# Altium integrated library CtrBoard-H7_V1.0.IntLib: 96 symbols
Pins are listed as number, name and electrical type; pins without a type are passive.

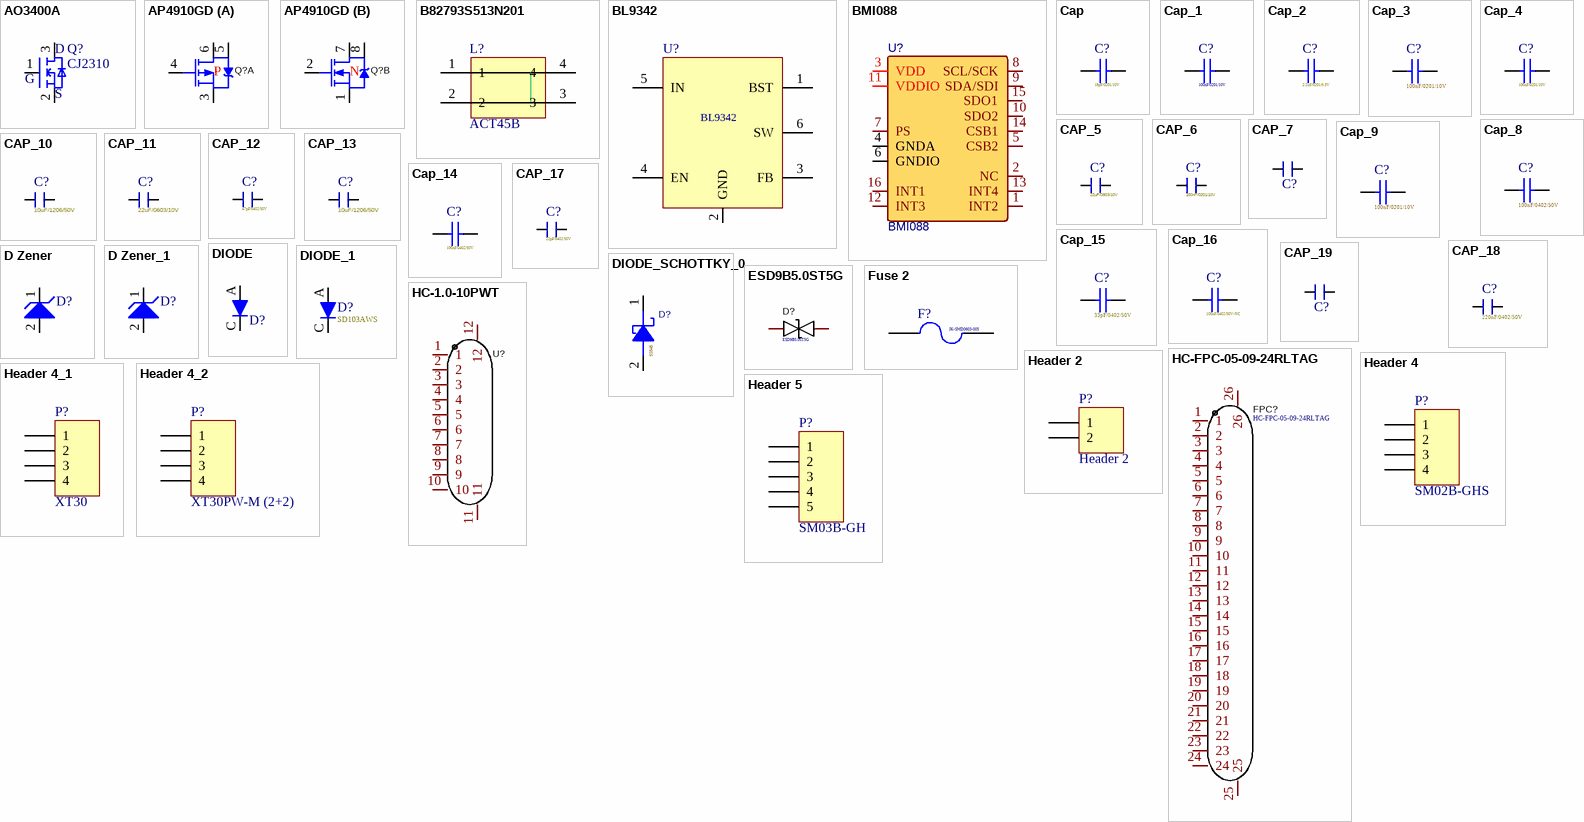
[diagram p0: symbols AO3400A to Header 5]

## AO3400A
designator Q?, comment CJ2310
footprint SOT-23
pins: 1 G, 2 S, 3 D

## AP4910GD
designator Q?  (value not drawn)
Manufacturer: ALLPOWER(铨力); Add into BOM: yes; Type: 1个N沟道和1个P沟道; Name: AP4910GD; Symbol: AP4910GD; Device: AP4910GD; LCSC Part Name: 1个N沟道和1个P沟道; Supplier Part: C2849573; Manufacturer Part: AP4910GD; Supplier Footprint: PDFN(5x6); JLCPCB Part Class: Extended Part; Datasheet: https://atta.szlcsc.com/upload/public/pdf/source/20210723/C2849573_4C092881E49D8B65965118F4F21242AC.pdf; Supplier: LCSC; Convert to PCB: yes; Continuous Drain Current (Id): -; Power Dissipation (Pd): -; Drain Source On Resistance (RDS(on)@Vgs,Id): -; Gate Threshold Voltage (Vgs(th)@Id): -; Total Gate Charge (Qg@Vgs): -; Input Capacitance (Ciss@Vds): -; Reverse Transfer Capacitance (Crss@Vds): -
footprint DFN-8_L5.8-W4.9-P1.27-LS6.0-BL
3D model DFN-8_L5.8-W4.9-P1.27-LS6.0-BL
part A pins: 3 S, 4 G2, 5 D, 6 D
part B pins: 1 S, 2 G, 7 D, 8 D
part A text: P
part B text: N

## B82793S513N201
designator L?, comment ACT45B
footprint ACT45B
pins: 1, 2, 3, 4

## BL9342
designator U?, comment LGS5145  (value not drawn)
footprint SOT23-6
pins: 1 BST, 2 GND, 3 FB, 4 EN, 5 IN, 6 SW

## BMI088
designator U?
BOM_Manufacturer: Bosch Sensortec; Contributor: LCSC; SMT Type: Extend; BOM_Supplier: LCSC; BOM_Supplier Part: C194919; BOM_Manufacturer Part: BMI088; BOM_JLCPCB SMD: Yes; spicePre: U; spiceSymbolName: BMI088
footprint LGA-16-L4.5-W3.0-P0.50_TL (Footprint not found)
pins: 1 INT2, 2 NC, 3 VDD, 4 GNDA, 5 CSB2, 6 GNDIO, 7 PS, 8 SCL/SCK, 9 SDA/SDI, 10 SDO2, 11 VDDIO, 12 INT3, 13 INT4, 14 CSB1, 15 SDO1, 16 INT1

## Cap
designator C?, comment 18pF/0201/10V
Value: 18pF/0603/50V; Published: 8-Jun-2000; LatestRevisionDate: 17-Jul-2002; LatestRevisionNote: Re-released for DXP Platform.; PackageReference: RAD-0.3; Publisher: Altium Limited; PackageDescription: Radial Cap, Thru-Hole; 2 Leads; 0.3 in Pin Spacing
footprint 0402
footprint C0201
pins: 1, 2

## Cap_1
designator C?, comment 100nF/0201/10V
Published: 8-Jun-2000; LatestRevisionDate: 17-Jul-2002; LatestRevisionNote: Re-released for DXP Platform.; PackageReference: RAD-0.3; Publisher: Altium Limited; PackageDescription: Radial Cap, Thru-Hole; 2 Leads; 0.3 in Pin Spacing
simulation model CAP (Capacitor)
signal-integrity model Cap
footprint C0201
pins: 1, 2

## Cap_2
designator C?, comment 2.2uF/0201/6.3V
18pF/0402/50V; Value: 18pF/0603/50V; Published: 8-Jun-2000; LatestRevisionDate: 17-Jul-2002; LatestRevisionNote: Re-released for DXP Platform.; PackageReference: RAD-0.3; Publisher: Altium Limited; PackageDescription: Radial Cap, Thru-Hole; 2 Leads; 0.3 in Pin Spacing
footprint 0402
footprint C0201
pins: 1, 2

## Cap_3
designator C?, comment 100nF/0201/10V
Value: 100nF/0603/50V; Published: 8-Jun-2000; LatestRevisionDate: 17-Jul-2002; LatestRevisionNote: Re-released for DXP Platform.; PackageReference: RAD-0.3; Publisher: Altium Limited; PackageDescription: Radial Cap, Thru-Hole; 2 Leads; 0.3 in Pin Spacing
simulation model CAP (Capacitor)
signal-integrity model Cap
footprint C0201
pins: 1, 2

## Cap_4
designator C?, comment 100nF/0201/10V
Value: 100nF/0402/50V; Published: 8-Jun-2000; LatestRevisionDate: 17-Jul-2002; LatestRevisionNote: Re-released for DXP Platform.; PackageReference: RAD-0.3; Publisher: Altium Limited; PackageDescription: Radial Cap, Thru-Hole; 2 Leads; 0.3 in Pin Spacing
footprint C0201
pins: 1, 2

## CAP_5
designator C?, comment 22uF/0603/10V
CAP,1uF/25V/0805
footprint C0603
pins: 1, 2

## CAP_6
designator C?, comment 100nF/0201/10V
footprint C0201
pins: 1, 2

## CAP_7
designator C?, comment 100nF/0402/50V  (value not drawn)
footprint C0402
pins: 1, 2

## Cap_8
designator C?, comment 100nF/0402/50V
Value: 1uF/0603/50V; Published: 8-Jun-2000; LatestRevisionDate: 17-Jul-2002; LatestRevisionNote: Re-released for DXP Platform.; PackageReference: RAD-0.3; Publisher: Altium Limited; PackageDescription: Radial Cap, Thru-Hole; 2 Leads; 0.3 in Pin Spacing
simulation model CAP (Capacitor)
signal-integrity model Cap
footprint C0402
pins: 1, 2

## Cap_9
designator C?, comment 100nF/0201/10V
Value: 1uF/0603/50V; Published: 8-Jun-2000; LatestRevisionDate: 17-Jul-2002; LatestRevisionNote: Re-released for DXP Platform.; PackageReference: RAD-0.3; Publisher: Altium Limited; PackageDescription: Radial Cap, Thru-Hole; 2 Leads; 0.3 in Pin Spacing
simulation model CAP (Capacitor)
signal-integrity model Cap
footprint C0201
pins: 1, 2

## CAP_10
designator C?, comment 10uF/1206/50V
CAP,1uF/25V/0805
footprint C1206 (C0805)
pins: 1, 2

## CAP_11
designator C?, comment 22uF/0603/10V
footprint C0805
footprint C0603
pins: 1, 2

## CAP_12
designator C?, comment 47pF/0402/50V
footprint C0402
pins: 1, 2

## CAP_13
designator C?, comment 10uF/1206/50V
footprint C1206 (C0805)
pins: 1, 2

## Cap_14
designator C?, comment 100nF/0402/50V
Value: 100nF/0603/50V; Published: 8-Jun-2000; LatestRevisionDate: 17-Jul-2002; LatestRevisionNote: Re-released for DXP Platform.; PackageReference: RAD-0.3; Publisher: Altium Limited; PackageDescription: Radial Cap, Thru-Hole; 2 Leads; 0.3 in Pin Spacing
simulation model CAP (Capacitor)
signal-integrity model Cap
footprint C0402
pins: 1, 2

## Cap_15
designator C?, comment 33pF/0402/50V
Capacitor; Value: 100nF/0603/50V; Published: 8-Jun-2000; LatestRevisionDate: 17-Jul-2002; LatestRevisionNote: Re-released for DXP Platform.; PackageReference: RAD-0.3; Publisher: Altium Limited; PackageDescription: Radial Cap, Thru-Hole; 2 Leads; 0.3 in Pin Spacing
simulation model CAP (Capacitor)
signal-integrity model Cap
footprint R0402
pins: 1, 2

## Cap_16
designator C?, comment 100nF/0402/50V-NC
100nF/0402/50V; Value: 100nF/0603/50V; Published: 8-Jun-2000; LatestRevisionDate: 17-Jul-2002; LatestRevisionNote: Re-released for DXP Platform.; PackageReference: RAD-0.3; Publisher: Altium Limited; PackageDescription: Radial Cap, Thru-Hole; 2 Leads; 0.3 in Pin Spacing
simulation model CAP (Capacitor)
signal-integrity model Cap
footprint C0402
pins: 1, 2

## CAP_17
designator C?, comment 22pF/0402/50V
47pF/0402/50V
footprint C0402
pins: 1, 2

## CAP_18
designator C?, comment 220nF/0402/50V
100nF/0402/50V
footprint C0402
pins: 1, 2

## CAP_19
designator C?, comment 680nF/0402/50V  (value not drawn)
100nF/0402/50V
footprint C0402
pins: 1, 2

## D Zener
designator D?, comment BZX584C30V  (value not drawn)
Zener Diode 28~32V; Published: 8-Jun-2000; LatestRevisionDate: 17-Jul-2002; LatestRevisionNote: Re-released for DXP Platform.; PackageReference: DIODE-0.7; Publisher: Altium Limited; PackageDescription: Diode, Thru-Hole; 2 Leads; 0.7 in Pin Spacing
footprint DIODE-0.7 (Diode, Thru-Hole; 2 Leads; 0.7 in Pin Spacing)
simulation model ZENER (Diode)
signal-integrity model D Zener
footprint SOD-523
pins: 1 C, 2 A

## D Zener_1
designator D?, comment BZX584C9V1  (value not drawn)
Published: 8-Jun-2000; LatestRevisionDate: 17-Jul-2002; LatestRevisionNote: Re-released for DXP Platform.; PackageReference: DIODE-0.7; Publisher: Altium Limited; PackageDescription: Diode, Thru-Hole; 2 Leads; 0.7 in Pin Spacing
footprint DIODE-0.7 (Diode, Thru-Hole; 2 Leads; 0.7 in Pin Spacing)
simulation model ZENER (Diode)
signal-integrity model D Zener
footprint SOD-523
pins: 1 C, 2 A

## DIODE
designator D?, comment ES1JLWS  (value not drawn)
ES1JLWS -SOD123
footprint SOD323 - AC (SOD323)
pins: A, C

## DIODE_1
designator D?, comment SD103AWS
ES1JLWS -SOD123
footprint SOD323 - AC (SOD323)
pins: A, C

## DIODE_SCHOTTKY_0
designator D?, comment SS54B
DIODE SCHOTTKY 40V 650MA SOD523; Manufacturer PN: BAT30KFILM; Manufacturer: STMicroelectronics; PART_NUMBER: TMP-46; CLASS: DISCRETE; Rated Voltage: 530mV @ 300mA; Package Size: SC-79, SOD-523
footprint SMB_L4.6-W3.6-LS5.3-RD
pins: 1, 2

## ESD9B5.0ST5G
designator D?
Manufacturer: TECH PUBLIC(台舟); Symbol: ESD9B5.0ST5G_C3021104; Add into BOM: yes; Name: ESD9B5.0ST5G; Device: ESD9B5.0ST5G_C3021104; LCSC Part Name: ESD9B5.0ST5G; Supplier Part: C3021104; Manufacturer Part: ESD9B5.0ST5G; Supplier Footprint: SOD-923; JLCPCB Part Class: Extended Part; Datasheet: https://atta.szlcsc.com/upload/public/pdf/source/20220524/6CC5EA9A5BA15BBB56040E503B840966.pdf; Supplier: LCSC; Convert to PCB: yes
footprint SOD-923_L0.8-W0.6-LS1.0-BI
3D model SOD-923_L0.8-W0.6-H0.5-LS1.0
pins: 1, 2

## Fuse 2
designator F?, comment JK-SMD0603-005
Fuse; Published: 8-Jun-2000; LatestRevisionDate: 17-Jul-2002; LatestRevisionNote: Re-released for DXP Platform.; PackageReference: PIN-W2/E2.8; Publisher: Altium Limited; PackageDescription: Thru-Hole; 2 Leads
simulation model FUSE (Spice Subcircuit)
footprint 0805
footprint 0603-F
pins: 1, 2

## HC-1.0-10PWT
designator U?  (value not drawn)
Manufacturer: HCTL(华灿天禄); Name: HC-1.0-12PWT; Symbol: HC-1.0-12PWTKK; Device: HC-1.0-12PWT_C3012315; Add into BOM: yes; Pitch: 1mm; Pins Structure: 1x12P; Number of PINs Per Row: 12; Gender: 公型插针; Current Rating (Max): 500mA; LCSC Part Name: 1mm 1x12P 卧贴 镀锡; Supplier Part: C3012315; Manufacturer Part: HC-1.0-12PWT; Supplier Footprint: SMD,P=1mm; JLCPCB Part Class: Extended Part; Datasheet: https://atta.szlcsc.com/upload/public/pdf/source/20210728/C2845366_B9EC6C571A463F13550F01514B9EA0C0.pdf; Supplier: LCSC; Convert to PCB: yes; Number of Rows: 1; Mounting Style: 卧贴; Operating Temperature Range: -25℃~+85℃
footprint JST SM10B-GHS-TB (1.25mm pitch/Disconnectable Crimp style connectors)
3D model CONN-SMD_12P-P1.00_HCTL_HC-1.0-12PWTKK (PCB3D Model)
pins: 1, 2, 3, 4, 5, 6, 7, 8, 9, 10, 11, 12

## HC-FPC-05-09-24RLTAG
designator FPC?
Manufacturer: HCTL(华灿天禄); Add into BOM: yes; Pitch: 0.5mm; Number of Contacts: 24P; Locking Feature: 翻盖式; Name: HC-FPC-05-09-24RLTAG; Symbol: HC-FPC-05-09-24RLTAG; Device: HC-FPC-05-09-24RLTAG; LCSC Part Name: 间距:0.5mm P数:24P 翻盖式 下接; Supplier Part: C5213757; Manufacturer Part: HC-FPC-05-09-24RLTAG; Supplier Footprint: SMD,P=0.5mm,卧贴; JLCPCB Part Class: Extended Part; Datasheet: https://atta.szlcsc.com/upload/public/pdf/source/20221026/52A26161A88FCE07A06989F8D4399614.pdf; Supplier: LCSC; Convert to PCB: yes; Contact Type: 下接; Mounting Type: 卧贴; Height Above Board: 1mm
footprint FPC-SMD_24P-P0.50_HC-FPC-05-09-24RLTAG
3D model FPC-SMD_24P-P0.50_HC-FPC-05-09-24RLTAG
pins: 1, 2, 3, 4, 5, 6, 7, 8, 9, 10, 11, 12, 13, 14, 15, 16, 17, 18, 19, 20, 21, 22, 23, 24, 25, 26

## Header 2
designator P?
Header, 2-Pin; LatestRevisionDate: 17-Jul-2002; LatestRevisionNote: Re-released for DXP Platform.; Publisher: Altium Limited
footprint HDR1X2-2.0mm (Connector; Header; 2 Position)
signal-integrity model Connector
pins: 1, 2

## Header 4
designator P?, comment SM02B-GHS
Header, 4-Pin; LatestRevisionDate: 17-Jul-2002; LatestRevisionNote: Re-released for DXP Platform.; Publisher: Altium Limited
signal-integrity model Connector
footprint JST-SM02B-GHS-TB
pins: 1, 2, 3, 4

## Header 4_1
designator P?, comment XT30
Header, 4-Pin; LatestRevisionDate: 17-Jul-2002; LatestRevisionNote: Re-released for DXP Platform.; Publisher: Altium Limited
footprint XT30PW-M
pins: 1, 2, 3, 4

## Header 4_2
designator P?, comment XT30PW-M (2+2)
LatestRevisionDate: 17-Jul-2002; LatestRevisionNote: Re-released for DXP Platform.; Publisher: Altium Limited
footprint XT30PB-M (2+2)
signal-integrity model Connector
pins: 1, 2, 3, 4

## Header 5
designator P?, comment SM03B-GH
Header, 5-Pin; LatestRevisionDate: 17-Jul-2002; LatestRevisionNote: Re-released for DXP Platform.; Publisher: Altium Limited
signal-integrity model Connector
footprint JST SM03B-GHS-TB (1.25mm pitch/Disconnectable Crimp style connectors)
pins: 1, 2, 3, 4, 5

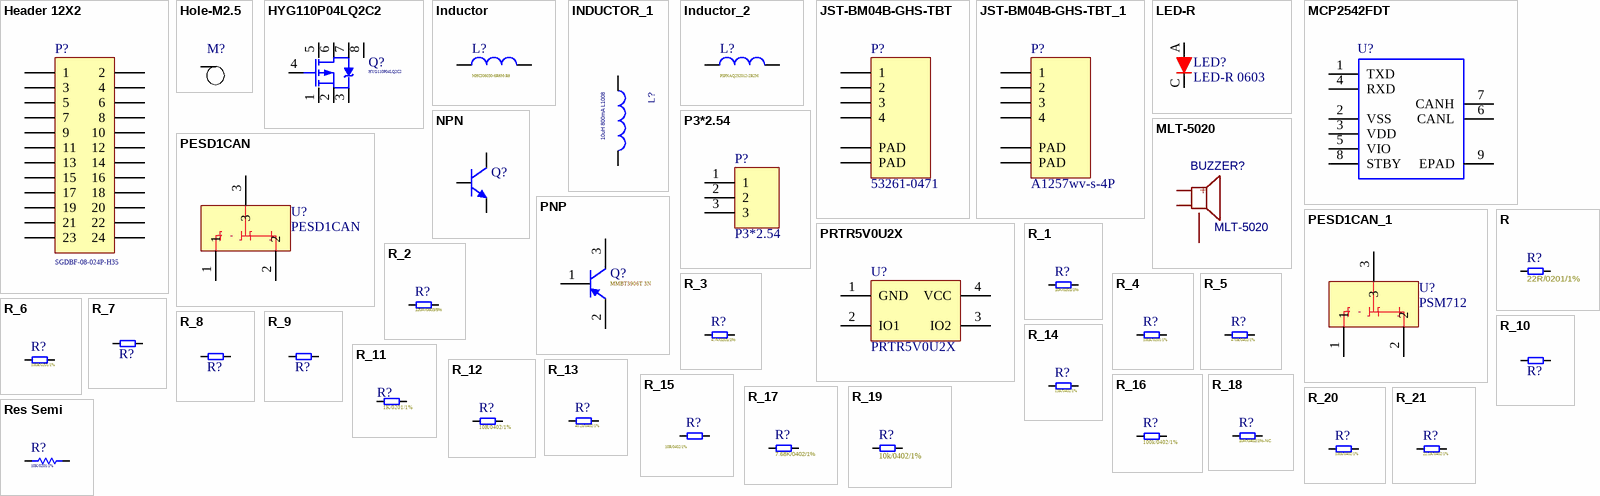
[diagram p1: symbols Header 12X2 to Res Semi]

## Header 12X2
designator P?, comment SGDBF-08-024P-H35
Header, 12-Pin, Dual row; LatestRevisionDate: 17-Jul-2002; LatestRevisionNote: Re-released for DXP Platform.; Publisher: Altium Limited
footprint SGDBF-08-024P-H35 (0.8间距2x12P 高4mm 公座，SMD)
signal-integrity model Connector
pins: 1, 2, 3, 4, 5, 6, 7, 8, 9, 10, 11, 12, 13, 14, 15, 16, 17, 18, 19, 20, 21, 22, 23, 24

## Hole-M2.5
designator M?, comment M2  (value not drawn)
footprint HOLE_PC4DC2P4
pins: 0

## HYG110P04LQ2C2
designator Q?
footprint SON-8_L5.0-W6.0-P1.27-BL
pins: 1 S, 2 S, 3 S, 4 G, 5 D, 6 D, 7 D, 8 D

## Inductor
designator L?, comment MHCI06030-6R8M-R8
footprint L7*7
pins: 1, 2

## INDUCTOR_1
designator L?, comment 10uH 800mA L1008
220uH 800mA L1008; Coding: YC.DZ.L00254
footprint L1616
pins: 1, 2

## Inductor_2
designator L?, comment PSPNAQ252012-2R2M
footprint L2520 (2.5x2.0mm)
pins: 1, 2

## JST-BM04B-GHS-TBT
designator P?, comment 53261-0471
footprint MOLEX-53261-0471
pins: 1, 2, 3, 4, 5 PAD, 6 PAD

## JST-BM04B-GHS-TBT_1
designator P?, comment A1257wv-s-4P
footprint JST-BM04B-GHS-TBT
pins: 1, 2, 3, 4, 5 PAD, 6 PAD

## LED-R
designator LED?, comment LED-R 0603
footprint LED0603
pins: A, C

## MCP2542FDT
designator U?, comment MCP2562T-E/MF  (value not drawn)
?MCP2542FDT-H/MNY?
footprint DFN-8_EP_3X3MM-0.65
pins: 1 TXD, 2 VSS, 3 VDD, 4 RXD, 5 VIO, 6 CANL, 7 CANH, 8 STBY, 9 EPAD

## MLT-5020
designator BUZZER?
BOM_Manufacturer: HNDZ; BOM_Supplier: LCSC; BOM_Manufacturer Part: MLT-5020; BOM_Supplier Part: C94598; spicePre: B
footprint B-5.0*5.0
footprint B-5.0*5.0
pins: 1 +, 2, 3 nc

## NPN
designator Q?, comment MMBT3904T 1N  (value not drawn)
NPN Bipolar Transistor; Published: 8-Jun-2000; LatestRevisionDate: 17-Jul-2002; LatestRevisionNote: Re-released for DXP Platform.; PackageReference: TO-226; Publisher: Altium Limited; Code_JEDEC: TO-226-AA
footprint SOT-523-3_L1.6-W0.8-P1.00-LS1.6-BR
pins: 1 B, 2 E, 3 C

## P3*2.54
designator P?
footprint 舵机接口
pins: 1, 2, 3

## PESD1CAN
designator U?
footprint SOT-23
pins: 1, 2, 3

## PESD1CAN_1
designator U?, comment PSM712
footprint SOT-23
pins: 1, 2, 3

## PNP
designator Q?, comment MMBT3906T 3N
PNP Bipolar Transistor; Published: 8-Jun-2000; LatestRevisionDate: 29-May-2009; LatestRevisionNote: IPC-7351 Footprint Added.; PackageVersion: Aug-1999; PackageReference: SOT-23B; Publisher: Altium Limited; PackageDescription: 3-Pin SOT-23 Package 0.95 mm Pitch, 2.4 mm Lead Span
footprint SOT-23B_N (SOT23, 3-Leads, Body 2.9x1.3mm, Pitch 0.95mm, Lead Span 2.4mm, IPC Medium Density)
footprint SOT-23B_L (SOT23, 3-Leads, Body 2.9x1.3mm, Pitch 0.95mm, Lead Span 2.4mm, IPC High Density)
footprint SOT-23B_M (SOT23, 3-Leads, Body 2.9x1.3mm, Pitch 0.95mm, Lead Span 2.4mm, IPC Low Density)
simulation model PNP
signal-integrity model PNP
footprint SOT-523-3_L1.6-W0.8-P1.00-LS1.6-BR
pins: 1 B, 2 E, 3 C

## PRTR5V0U2X
designator U?
footprint SOT143B
pins: 1 GND, 2 IO1, 3 IO2, 4 VCC

## R
designator R?, comment 22R/0201/1%
footprint R0201
pins: 1, 2

## R_1
designator R?, comment 10K/0201/1%
footprint 0603
footprint R0201
pins: 1, 2

## R_2
designator R?, comment 120R/0603/5%
footprint R0603
pins: 1, 2

## R_3
designator R?, comment 4.7k/0201/1%
footprint 0603
footprint R0201
pins: 1, 2

## R_4
designator R?, comment 100K/0201/1%
footprint R0201
pins: 1, 2

## R_5
designator R?, comment 470R/0402/1%
footprint R0402
pins: 1, 2

## R_6
designator R?, comment 100R/0201/1%
footprint R0201
pins: 1, 2

## R_7
designator R?, comment 10k/0402/1%  (value not drawn)
100k/0402/1%
footprint R0402
pins: 1, 2

## R_8
designator R?, comment 100K/0201/1%  (value not drawn)
100k/0402/1%
footprint R0201
pins: 1, 2

## R_9
designator R?, comment 1K/0402/5%  (value not drawn)
footprint R0402
pins: 1, 2

## R_10
designator R?, comment 100K/0201/1%  (value not drawn)
10K/0402/1%
footprint R0201
pins: 1, 2

## R_11
designator R?, comment 1K/0201/1%
footprint R0201
pins: 1, 2

## R_12
designator R?, comment 10R/0402/1%
10R/0402/5%
footprint R0402
pins: 1, 2

## R_13
designator R?, comment 40.2k/0402/1%
footprint R0402
pins: 1, 2

## R_14
designator R?, comment 13K/0402/1%
7.68k/0402/1%
footprint R0402
pins: 1, 2

## R_15
designator R?, comment 10R/0402/1%
footprint R0402
pins: 1, 2

## R_16
designator R?, comment 100k/0402/1%
footprint R0402
pins: 1, 2

## R_17
designator R?, comment 7.68K/0402/1%
footprint R0402
pins: 1, 2

## R_18
designator R?, comment 10R/0402/1%-NC
30K/0402/1%
footprint R0402
pins: 1, 2

## R_19
designator R?, comment 10k/0402/1%
10k/0402/5%
footprint R0402
pins: 1, 2

## R_20
designator R?, comment 100k/0402/1%
40.2k/0402/1%
footprint R0402
pins: 1, 2

## R_21
designator R?, comment 22.1K/0402/1%
7.68k/0402/1%
footprint R0402
pins: 1, 2

## Res Semi
designator R?, comment 10K/0201/1%
Published: 8-Jun-2000; LatestRevisionDate: 17-Jul-2002; LatestRevisionNote: Re-released for DXP Platform.; PackageReference: AXIAL-0.5; Publisher: Altium Limited; PackageDescription: Axial Device, Thru-Hole; 2 Leads; 0.5 in Pin Spacing
footprint 0402
footprint R0201
pins: 1, 2

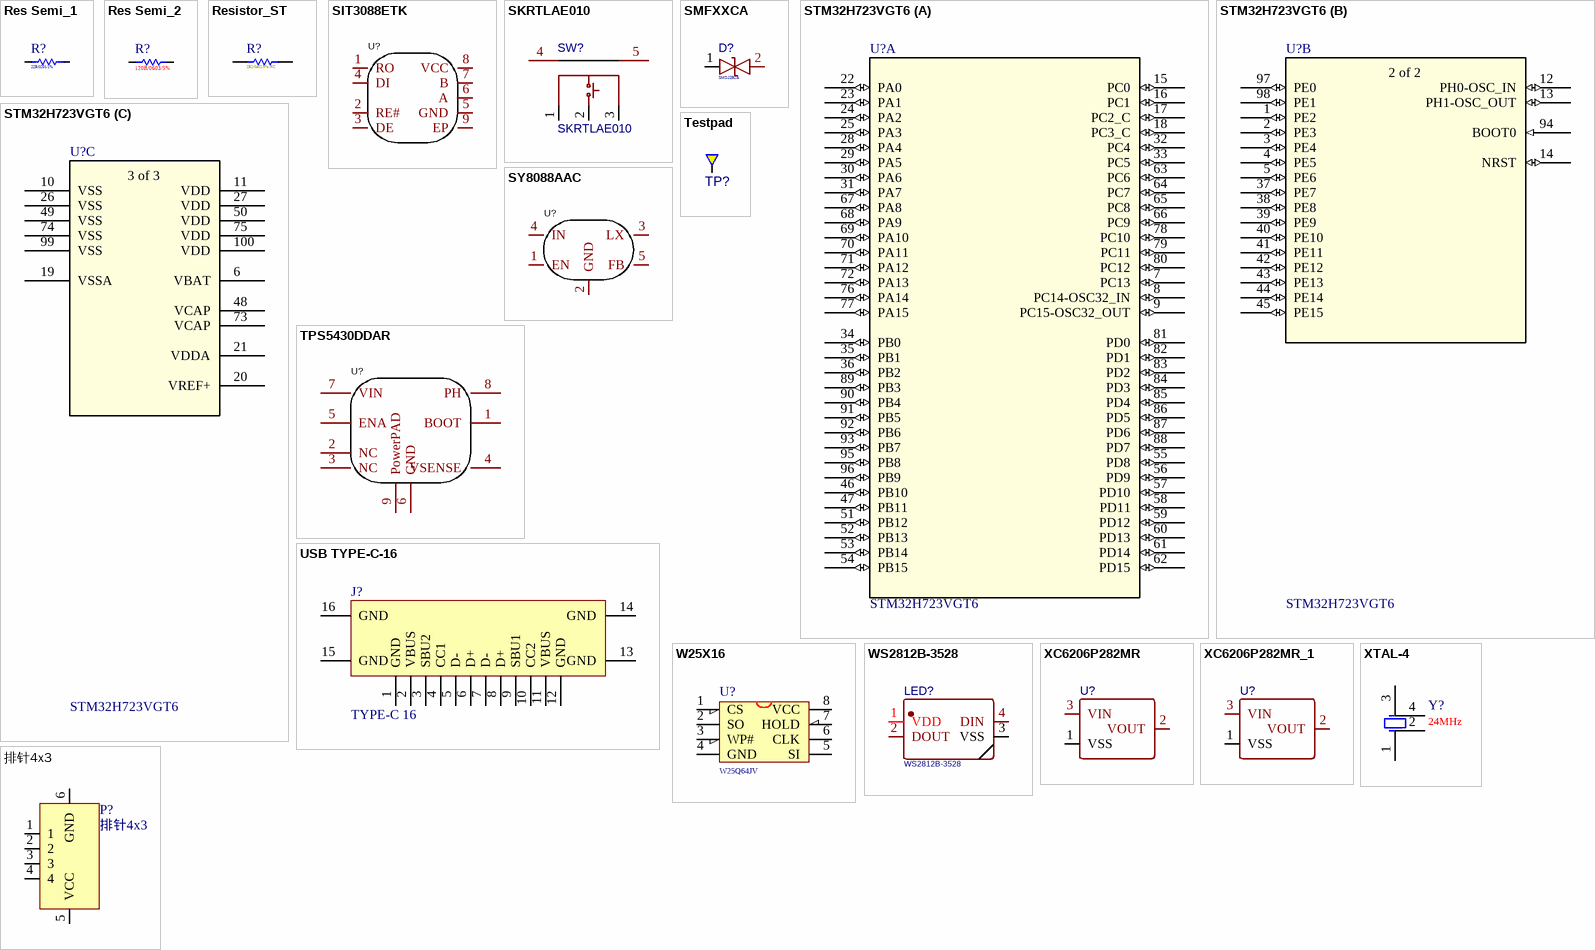
[diagram p2: symbols Res Semi_1 to 排针4x3]

## Res Semi_1
designator R?, comment 22R/0201/1%
Published: 8-Jun-2000; LatestRevisionDate: 17-Jul-2002; LatestRevisionNote: Re-released for DXP Platform.; PackageReference: AXIAL-0.5; Publisher: Altium Limited; PackageDescription: Axial Device, Thru-Hole; 2 Leads; 0.5 in Pin Spacing
footprint 0402
footprint R0201
pins: 1, 2

## Res Semi_2
designator R?, comment 120R/0603/5%
Semiconductor Resistor; Published: 8-Jun-2000; LatestRevisionDate: 17-Jul-2002; LatestRevisionNote: Re-released for DXP Platform.; PackageReference: AXIAL-0.5; Publisher: Altium Limited; PackageDescription: Axial Device, Thru-Hole; 2 Leads; 0.5 in Pin Spacing; Value: 120R/0603/5%
footprint R0603
pins: 1, 2

## Resistor_ST
designator R?, comment 2R2/0402/5%-NC
2R2/0402/5%; Value: 10K
footprint R0402
pins: 1, 2

## SIT3088ETK
designator U?  (value not drawn)
Manufacturer: SIT(芯力特); Add into BOM: yes; Name: SIT3088ETK; Symbol: SIT3088ETK; Device: SIT3088ETK; LCSC Part Name: RS-485/RS-422芯片; Supplier Part: C601076; Manufacturer Part: SIT3088ETK; Supplier Footprint: DFN-8-EP(3x3); JLCPCB Part Class: Extended Part; Datasheet: https://atta.szlcsc.com/upload/public/pdf/source/20200610/C601074_2E843880C44A2DA1B7E0D38765D8E5FA.pdf; Supplier: LCSC; Convert to PCB: yes
footprint DFN-8_EP_3X3MM-0.65
3D model DFN-8_L3.0-W3.0-H0.9-P0.65
pins: 1 RO, 2 RE#, 3 DE, 4 DI, 5 GND, 6 A, 7 B, 8 VCC, 9 EP

## SKRTLAE010
designator SW?
BOM_Manufacturer: ALPS; BOM_Supplier: LCSC; BOM_Manufacturer Part: SKRTLAE010; BOM_Supplier Part: C110293; BOM_JLCPCB Part Class: Extended Part; spicePre: S; spiceSymbolName: SKRTLAE010
footprint KEY-SMD_SKRTLAE010
pins: 1, 2, 3, 4, 5

## SMFXXCA
designator D?, comment SMDJ28CA
BOM_Manufacturer: (MDD) Jiangsu Yutai Elec; BOM_Manufacturer Part: SMF16CA; Contributor: LCSC; SMT Type: Extend; BOM_Supplier: LCSC; BOM_LCSC Assembly: Yes; spicePre: D; spiceSymbolName: SMF16CA_C123805
footprint SMC_L6.9-W5.9-LS7.9-RD
pins: 1 K, 2 A

## STM32H723VGT6
designator U?
No Description Available; Mfr_Name: STMicroelectronics; Copyright: Copyright (C) 2023 Ultra Librarian. All rights reserved.; Manufacturer_Part_Number: STM32H723VGT6; RefDes: RefDes; Type: DEV
footprint LQFP100-14x14mm
part A pins: 7 PC13 (io), 8 PC14-OSC32_IN (io), 9 PC15-OSC32_OUT (io), 15 PC0 (io), 16 PC1 (io), 17 PC2_C (io), 18 PC3_C (io), 22 PA0 (io), 23 PA1 (io), 24 PA2 (io), 25 PA3 (io), 28 PA4 (io), 29 PA5 (io), 30 PA6 (io), 31 PA7 (io), 32 PC4 (io), 33 PC5 (io), 34 PB0 (io), 35 PB1 (io), 36 PB2 (io), 46 PB10 (io), 47 PB11 (io), 51 PB12 (io), 52 PB13 (io), 53 PB14 (io), 54 PB15 (io), 55 PD8 (io), 56 PD9 (io), 57 PD10 (io), 58 PD11 (io), 59 PD12 (io), 60 PD13 (io), 61 PD14 (io), 62 PD15 (io), 63 PC6 (io), 64 PC7 (io), 65 PC8 (io), 66 PC9 (io), 67 PA8 (io), 68 PA9 (io), 69 PA10 (io), 70 PA11 (io), 71 PA12 (io), 72 PA13 (io), 76 PA14 (io), 77 PA15 (io), 78 PC10 (io), 79 PC11 (io), 80 PC12 (io), 81 PD0 (io), 82 PD1 (io), 83 PD2 (io), 84 PD3 (io), 85 PD4 (io), 86 PD5 (io), 87 PD6 (io), 88 PD7 (io), 89 PB3 (io), 90 PB4 (io), 91 PB5 (io), 92 PB6 (io), 93 PB7 (io), 95 PB8 (io), 96 PB9 (io)
part B pins: 1 PE2 (io), 2 PE3 (io), 3 PE4 (io), 4 PE5 (io), 5 PE6 (io), 12 PH0-OSC_IN (io), 13 PH1-OSC_OUT (io), 14 NRST (io), 37 PE7 (io), 38 PE8 (io), 39 PE9 (io), 40 PE10 (io), 41 PE11 (io), 42 PE12 (io), 43 PE13 (io), 44 PE14 (io), 45 PE15 (io), 94 BOOT0 (in), 97 PE0 (io), 98 PE1 (io)
part C pins: 6 VBAT (power), 10 VSS (power), 11 VDD (power), 19 VSSA (power), 20 VREF+ (power), 21 VDDA (power), 26 VSS (power), 27 VDD (power), 48 VCAP (power), 49 VSS (power), 50 VDD (power), 73 VCAP (power), 74 VSS (power), 75 VDD (power), 99 VSS (power), 100 VDD (power)
part B text: 2 of 2
part C text: 3 of 3

## SY8088AAC
designator U?  (value not drawn)
Manufacturer: silergy(矽力杰); Add into BOM: yes; Function: 降压型; Name: SY8088AAC; Symbol: SY8088AAC; Device: SY8088AAC; LCSC Part Name: 降压型; Supplier Part: C79313; Manufacturer Part: SY8088AAC; Supplier Footprint: SOT-23-5; JLCPCB Part Class: Extended Part; Datasheet: https://atta.szlcsc.com/upload/public/pdf/source/20170329/1490752163260.pdf; Supplier: LCSC; Convert to PCB: yes; Synchronous Rectification: -; Number of Outputs: -; Topology: -; Input Voltage: -; Output Current (Max): -; Switching Frequency: -
footprint SOT23-5
3D model SOT-23-5_L2.9-W1.6-H1.1-LS2.8-P0.95
pins: 1 EN, 2 GND, 3 LX, 4 IN, 5 FB

## Testpad
designator TP?  (value not drawn)  (no BOM)
Testpad, round, 1.5mm; PartNumber: TP-R-1.5
footprint TP-0.6 (1x1cm)
pins: 1

## TPS5430DDAR
designator U?  (value not drawn)
Manufacturer: TI(德州仪器); Add into BOM: yes; Function: 降压型; Name: TPS5430DDAR; Symbol: TPS5430DDAR; Device: TPS5430DDAR; LCSC Part Name: 降压型; Supplier Part: C9864; Manufacturer Part: TPS5430DDAR; Supplier Footprint: SO-8; JLCPCB Part Class: Basic Part; Datasheet: https://atta.szlcsc.com/upload/public/pdf/source/20161207/1481104217724.pdf; Supplier: LCSC; Convert to PCB: yes; Synchronous Rectification: -; Number of Outputs: -; Topology: -; Input Voltage: -; Output Current (Max): -; Switching Frequency: -
footprint SOP8+PAD
3D model ESOP-8_L4.9-W3.9-H1.6-LS6.0-P1.27
pins: 1 BOOT, 2 NC, 3 NC, 4 VSENSE, 5 ENA, 6 GND, 7 VIN, 8 PH, 9 PowerPAD

## USB TYPE-C-16
designator J?, comment TYPE-C 16
footprint USB type C-16pin
pins: 1 GND, 2 VBUS, 3 SBU2, 4 CC1, 5 D-, 6 D+, 7 D-, 8 D+, 9 SBU1, 10 CC2, 11 VBUS, 12 GND, 13 GND, 14 GND, 15 GND, 16 GND

## W25X16
designator U?, comment W25Q64JV
W25X16;SST25VF016;MX25L1605
footprint SOIC-8 208MIL WIDE (SOIC, 8-Leads, Body 5.28x5.28mm, Pitch 1.27mm, IPC Medium Density)
pins: 1 CS, 2 SO, 3 WP#, 4 GND, 5 SI, 6 CLK, 7 HOLD, 8 VCC

## WS2812B-3528
designator LED?
BOM_Manufacturer: Worldsemi; BOM_Manufacturer Part: WS2812B-Mini; Contributor: LCSC; BOM_Supplier: LCSC; BOM_Supplier Part: C527089; BOM_JLCPCB Part Class: Extended Part; spicePre: L; spiceSymbolName: WS2812B-MINI
footprint LED-SMD_4P-L3.5-W2.8-WS2812B
pins: 1 VDD, 2 DOUT, 3 VSS, 4 DIN

## XC6206P282MR
designator U?  (value not drawn)
BOM_Manufacturer: Youtai Semiconductor Co., Ltd.; Contributor: LCSC; BOM_Supplier: LCSC; BOM_Supplier Part: C347374; BOM_Manufacturer Part: XC6206P282MR; BOM_JLCPCB Part Class: Extended Part; spicePre: U; spiceSymbolName: XC6206P282MR_C347374
footprint SOT-23-3_L3.0-W1.7-P0.95-LS2.9-BR
pins: 1 VSS, 2 VOUT, 3 VIN

## XC6206P282MR_1
designator U?, comment XC6206P152MR(1uA)  (value not drawn)
BOM_Manufacturer: Youtai Semiconductor Co., Ltd.; BOM_Manufacturer Part: XC6206P282MR; Contributor: LCSC; BOM_Supplier: LCSC; BOM_Supplier Part: C347374; BOM_JLCPCB Part Class: Extended Part; spicePre: U; spiceSymbolName: XC6206P282MR_C347374
footprint SOT-23-3_L3.0-W1.7-P0.95-LS2.9-BR
pins: 1 VSS, 2 VOUT, 3 VIN

## XTAL-4
designator Y?, comment 24MHz
SX32Y024000BC1T; Published: 8-Jun-2000; LatestRevisionDate: 17-Jul-2002; LatestRevisionNote: Re-released for DXP Platform.; PackageReference: R38; Publisher: Altium Limited; PackageDescription: Crystal, Thru-Hole; 2 Leads; Body 3.1 x 8.2 mm (Dia.xH)
simulation model XTAL (Spice Subcircuit)
footprint 3225
pins: 1 OSC2, 2 HIN4, 3 OSC1, 4 HIN4

## 排针4x3
designator P?
footprint 反序排针X3X4X2.54
pins: 1, 2, 3, 4, 5 VCC, 6 GND